# Altium footprint library MOLEX SD-73251-220 (GOLD, 2.79MM FEET).PCBLIB: 1 footprints
Each footprint in its own frame and in the unit in brackets; x right, y up, seen from the top. Pads: shape width x height; smd on the part's side, far side on the other; paste and mask are expansions set on the pad; w line width, h text height; cw(c..) or ccw(c..) is an arc to the next point about the centre after c.
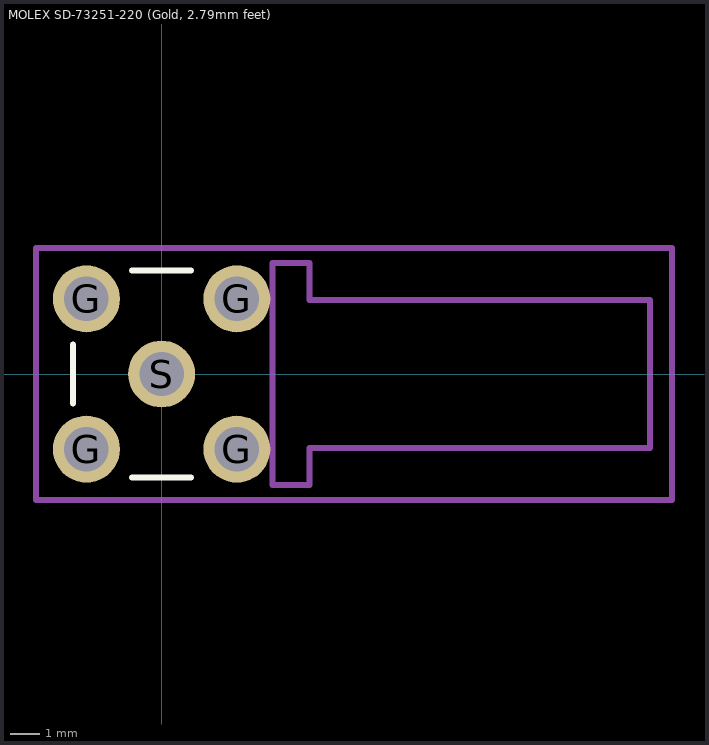
[diagram p0: the footprint, top view; thin cyan lines are the x and y axes]

## MOLEX SD-73251-220 (Gold, 2.79mm feet) [mm]
pads (5):
  round 2.262 hole 1.5: G(-2.54,-2.54) G(-2.54,2.54) G(2.54,-2.54) G(2.54,2.54) S(0,0)
Top Overlay:
  lines w0.2: -3,-1 -3,1 ; -1,-3.5 1,-3.5 ; -1,3.5 1,3.5
Mechanical 1:
  lines w0.2: 3.75,-3.75 5,-3.75 5,-2.5 16.5,-2.5 16.5,2.5 5,2.5 5,3.75 3.75,3.75 3.75,-3.75
Mechanical 15:
  lines w0.2: -1,0 1,0 ; 0,-1 0,1 ; -4.25,-4.25 17.25,-4.25 17.25,4.25 -4.25,4.25 -4.25,-4.25
3D body "MOLEX SD-73251-220 Gold 279.stp": height 10.59, standoff -2.64, extent -3,-3.9 16.55,3.9